# Altium schematic symbol library TLV9052IDR.SchLib: 2 symbols
Pins are listed as number, name and electrical type; pins without a type are passive.

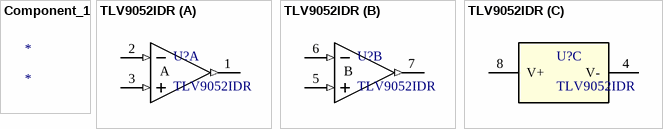
[diagram p0: symbols Component_1 to TLV9052IDR]

## Component_1
designator *

## TLV9052IDR
designator U?
No Description Available; Mfr_Name: Texas Instruments; Type: DEV; RefDes: RefDes; Copyright: Copyright (C) 2023 Ultra Librarian. All rights reserved.; Manufacturer_Part_Number: TLV9052IDR; Digi-Key_Part_Number_1: 296-53049-1-ND; Digi-Key_Part_Number_2: 296-53049-2-ND; Digi-Key_Part_Number_3: 296-53049-6-ND
footprint D0008A_N
part A pins: 1 OUT (out), 2 IN- (in), 3 IN+ (in)
part B pins: 5 IN+ (in), 6 IN- (in), 7 OUT (out)
part C pins: 4 V- (power), 8 V+ (power)
part A text: A
part B text: B